# Altium footprint library Inductor_SMD.PcbLib: 259 footprints (part 5 of 17)
Each footprint in its own frame and in the unit in brackets; x right, y up, seen from the top. Pads: shape width x height; smd on the part's side, far side on the other; paste and mask are expansions set on the pad; w line width, h text height; cw(c..) or ccw(c..) is an arc to the next point about the centre after c.
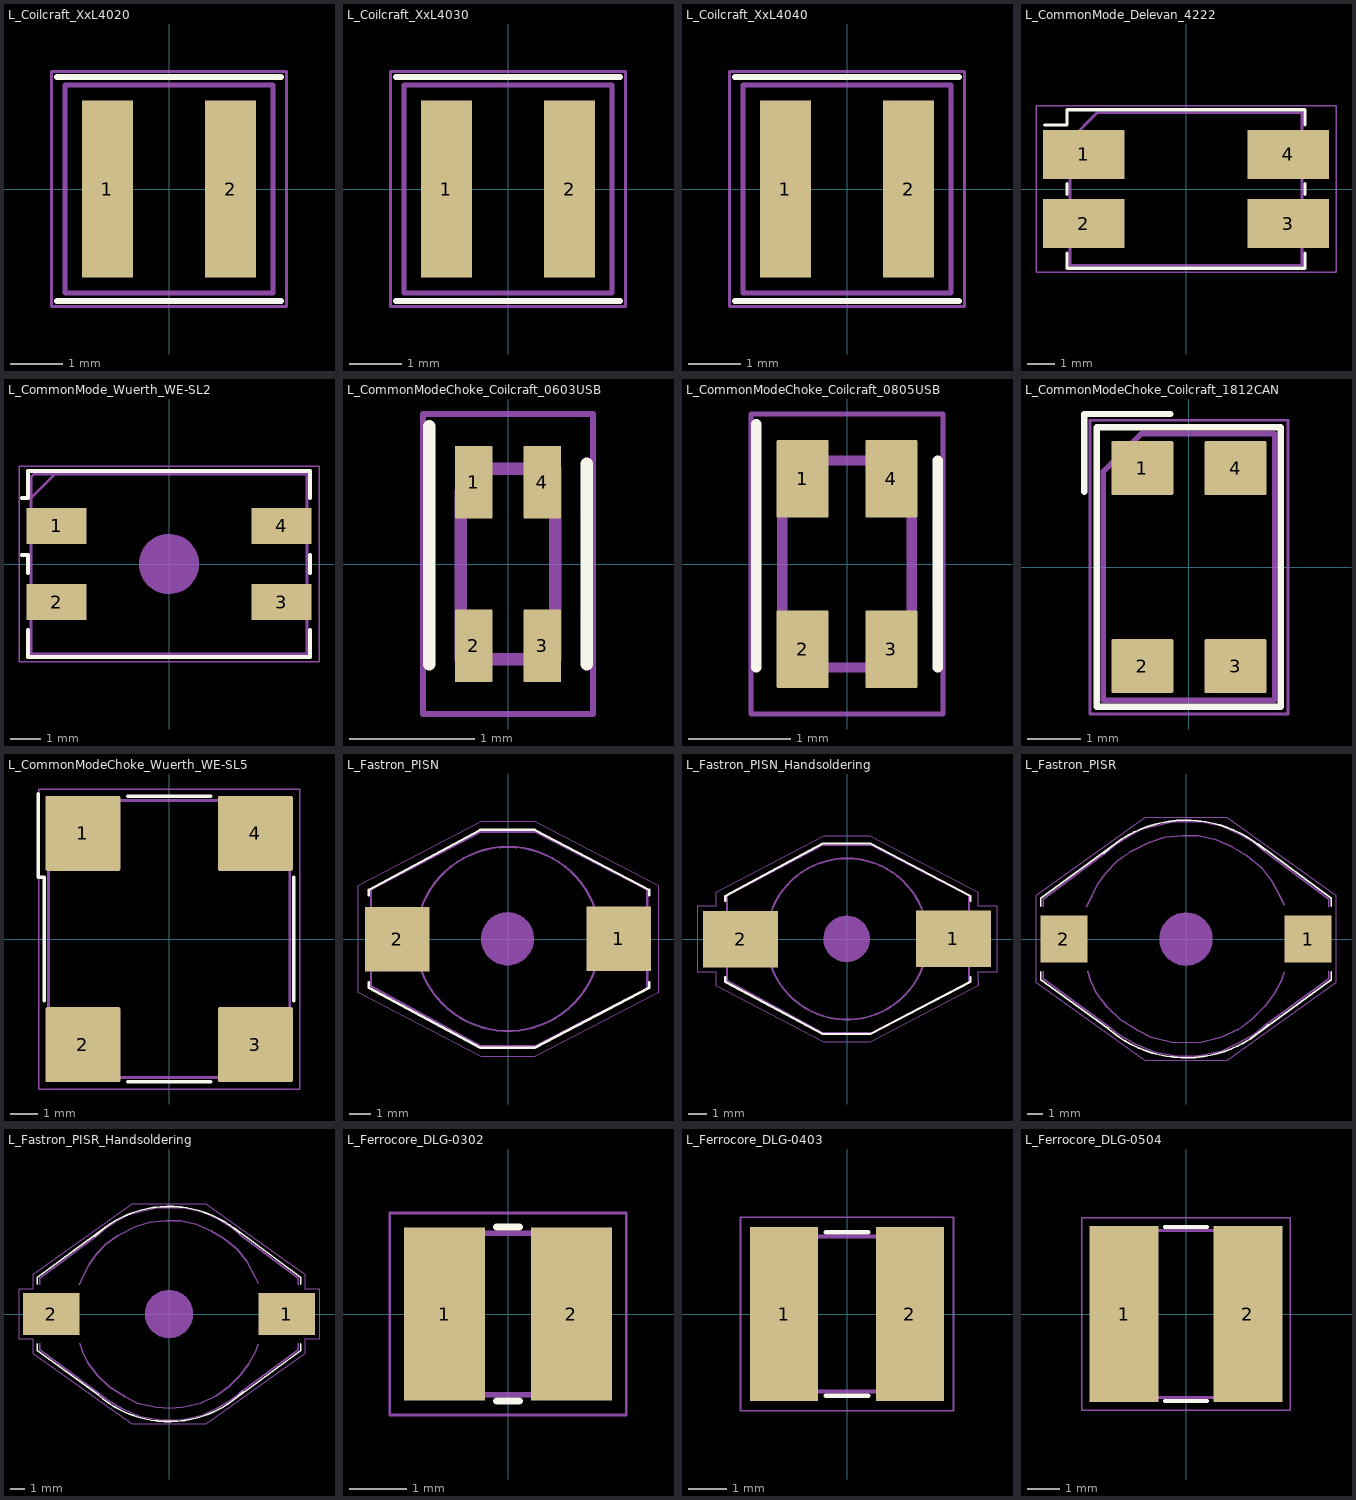
[diagram p4: the footprints below, top view; thin cyan lines are the x and y axes]

## L_Coilcraft_XxL4020 [mm]
pads (2):
  rect 0.98x3.4 smd: 1(-1.185,0) 2(1.185,0)
F.SilkS:
  lines w0.12: -2.154,-2.154 2.154,-2.154 ; -2.154,2.154 2.154,2.154
F.CrtYd:
  lines w0.05: -2.26,-2.26 -2.26,2.26 2.26,2.26 2.26,-2.26 -2.26,-2.26
F.Fab:
  lines w0.1: -2,-2 -2,2 2,2 2,-2 -2,-2
  text "'.Designator'" at -4.047,-0.84 h1

## L_Coilcraft_XxL4030 [mm]
pads (2):
  rect 0.98x3.4 smd: 1(-1.185,0) 2(1.185,0)
F.SilkS:
  lines w0.12: -2.154,-2.154 2.154,-2.154 ; -2.154,2.154 2.154,2.154
F.CrtYd:
  lines w0.05: -2.26,-2.26 -2.26,2.26 2.26,2.26 2.26,-2.26 -2.26,-2.26
F.Fab:
  lines w0.1: -2,-2 2,-2 2,2 -2,2 -2,-2
  text "'.Designator'" at -4.047,-0.84 h1

## L_Coilcraft_XxL4040 [mm]
pads (2):
  rect 0.98x3.4 smd: 1(-1.185,0) 2(1.185,0)
F.SilkS:
  lines w0.12: -2.154,-2.154 2.154,-2.154 ; -2.154,2.154 2.154,2.154
F.CrtYd:
  lines w0.05: -2.26,-2.26 -2.26,2.26 2.26,2.26 2.26,-2.26 -2.26,-2.26
F.Fab:
  lines w0.1: -2,-2 2,-2 2,2 -2,2 -2,-2
  text "'.Designator'" at -4.047,-0.84 h1

## L_CommonMode_Delevan_4222 [mm]
pads (4):
  rect 3x1.8 smd: 1(-3.75,1.27) 2(-3.75,-1.27) 3(3.75,-1.27) 4(3.75,1.27)
F.SilkS:
  lines w0.12: -5.19,2.35 -4.365,2.35 -4.365,2.91 4.365,2.91 4.365,2.35 ; -4.365,-2.35 -4.365,-2.91 4.365,-2.91 4.365,-2.35 ; -4.365,-0.19 -4.365,0.19 ; 4.365,-0.19 4.365,0.19
F.CrtYd:
  lines w0.05: -5.5,-3.05 -5.5,3.05 5.5,3.05 5.5,-3.05 -5.5,-3.05
F.Fab:
  lines w0.1: -4.255,-2.8 4.255,-2.8 4.255,2.8 -3.255,2.8 -4.255,1.8 -4.255,-2.8
  text "'.Designator'" at -4.047,-0.84 h1

## L_CommonMode_Wuerth_WE-SL2 [mm]
pads (4):
  rect 2x1.2 smd: 1(-3.75,1.27) 2(-3.75,-1.27) 3(3.75,-1.27) 4(3.75,1.27)
F.SilkS:
  lines w0.12: -4.9,0.3 -4.7,0.3 -4.7,-0.3 ; -4.8,2.2 -4.9,2.2 -4.7,2.2 -4.7,3.1 4.7,3.1 4.7,2.2 ; -4.7,-2.2 -4.7,-3.1 4.7,-3.1 4.7,-2.2 ; 4.7,-0.3 4.7,0.3
F.CrtYd:
  lines w0.05: -5,-3.25 -5,3.25 5,3.25 5,-3.25 -5,-3.25
F.Fab:
  lines w0.1: -4.6,2.2 -3.8,3 ; -4.6,-3 4.6,-3 4.6,3 -3.6,3 -4.5,3 -4.6,2.9 -4.6,2 -4.6,-3
  text "'.Designator'" at -4.067,-0.84 h1
F.Adhes:
  circle w1: c0,0 r0.5

## L_CommonModeChoke_Coilcraft_0603USB [mm]
pads (4):
  rrect5% 0.3x0.58 smd: 1(-0.275,0.655) 2(-0.275,-0.655) 3(0.275,-0.655) 4(0.275,0.655)
F.SilkS:
  lines w0.1: -0.63,-0.8 -0.63,1.1 ; 0.63,-0.8 0.63,0.8
F.CrtYd:
  lines w0.05: -0.68,-1.2 0.68,-1.2 0.68,1.2 -0.68,1.2 -0.68,-1.2
F.Fab:
  lines w0.1: -0.38,-0.76 0.38,-0.76 0.38,0.76 -0.2,0.76 -0.38,0.58 -0.38,-0.76
  text "'.Designator'" at 0.42,-2.023 h0.5

## L_CommonModeChoke_Coilcraft_0805USB [mm]
pads (4):
  rrect5% 0.51x0.76 smd: 1(-0.435,0.835) 2(-0.435,-0.835) 3(0.435,-0.835) 4(0.435,0.835)
F.SilkS:
  lines w0.1: -0.89,-1.015 -0.89,1.37 ; 0.89,-1.015 0.89,1.015
F.CrtYd:
  lines w0.05: -0.94,-1.47 -0.94,1.47 0.94,1.47 0.94,-1.47 -0.94,-1.47
F.Fab:
  lines w0.1: -0.635,-1.015 0.635,-1.015 0.635,1.015 -0.205,1.015 -0.635,0.58 -0.635,-1.015
  text "'.Designator'" at 0.42,-2.023 h0.5

## L_CommonModeChoke_Coilcraft_1812CAN [mm]
pads (4):
  rrect5% 1.15x1 smd: 1(-0.865,1.84) 2(-0.865,-1.84) 3(0.865,-1.84) 4(0.865,1.84)
F.SilkS:
  lines w0.12: -1.95,1.4 -1.95,2.845 -0.35,2.845 ; -1.71,-2.595 1.71,-2.595 1.71,2.595 -1.71,2.595 -1.71,-2.595
F.CrtYd:
  lines w0.05: -1.84,-2.73 1.84,-2.73 1.84,2.73 -1.84,2.73 -1.84,-2.73
F.Fab:
  lines w0.1: -1.59,-2.475 -1.59,1.78 -0.89,2.475 1.59,2.475 1.59,-2.475 -1.59,-2.475
  text "'.Designator'" at 0.84,-4.047 h1

## L_CommonModeChoke_Wuerth_WE-SL5 [mm]
pads (4):
  rrect4% 2.7x2.7 smd: 1(-3.11,3.81) 2(-3.11,-3.81) 3(3.11,-3.81) 4(3.11,3.81)
F.SilkS:
  lines w0.12: -4.72,5.25 -4.72,2.23 -4.5,2.23 -4.5,-2.23 ; -1.5,-5.15 1.5,-5.15 ; -1.5,5.15 1.5,5.15 ; 4.5,-2.23 4.5,2.23
F.CrtYd:
  lines w0.05: -4.71,-5.41 4.71,-5.41 4.71,5.41 -4.71,5.41 -4.71,-5.41
F.Fab:
  lines w0.1: -4.35,-5 -4.35,3 -2.35,5 4.35,5 4.35,-5 -4.35,-5
  text "'.Designator'" at -4.047,-0.84 h1

## L_Fastron_PISN [mm]
pads (2):
  rect 3x3 smd: 1(5.17,0.01) 2(-5.17,-0.01)
F.SilkS:
  lines w0.12: -6.49,-2.03 -6.49,-2.28 -1.29,-5.07 1.25,-5.07 6.59,-2.28 6.59,-2.03 ; -6.49,2.04 -6.49,2.29 -1.29,5.09 1.25,5.09 6.59,2.29 6.59,2.04
F.CrtYd:
  lines w0.05: -7,-2.5 -1.25,-5.5 1.25,-5.5 7,-2.5 7,-2.25 7,2.5 1.25,5.5 -1.25,5.5 -7,2.5 -7,-2.5
F.Fab:
  circle w0.1: c0,0 r4.3
  lines w0.1: 6.5,2 6.5,2.3 1.3,5 -1.3,5 -6.4,2.3 -6.4,2 -6.4,-2.2 -1.3,-5 1.3,-5 6.5,-2.3 6.5,2.2
  text "'.Designator'" at -3.997,-0.84 h1
F.Adhes:
  circle w0.38: c-0.02,0.01 r0.26
  circle w0.38: c-0.02,0.01 r0.51
  circle w0.38: c-0.02,0.01 r0.813
  circle w0.38: c-0.02,0.01 r1.053
  lines w0.38: -0.02,-0.25 -0.02,0.26

## L_Fastron_PISN_Handsoldering [mm]
pads (2):
  rect 4x3 smd: 1(5.67,0.01) 2(-5.67,-0.01)
F.SilkS:
  lines w0.12: -6.49,-2.03 -6.49,-2.28 -1.29,-5.07 1.25,-5.07 6.59,-2.28 6.59,-2.03 ; -6.49,2.04 -6.49,2.29 -1.29,5.09 1.25,5.09 6.59,2.29 6.59,2.04
F.CrtYd:
  lines w0.05: -8,-1.75 -8,1.75 -7,1.75 -7,2.5 -1.25,5.5 1.25,5.5 7,2.5 7,1.75 8,1.75 8,-1.75 7,-1.75 7,-2.25 7,-2.5 1.25,-5.5 -1.25,-5.5 -7,-2.5 -7,-1.75 -8,-1.75
F.Fab:
  circle w0.1: c0,0 r4.3
  lines w0.1: 6.5,2 6.5,2.3 1.3,5 -1.3,5 -6.4,2.3 -6.4,2 -6.4,-2.2 -1.3,-5 1.3,-5 6.5,-2.3 6.5,2.2
  text "'.Designator'" at -3.997,-0.84 h1
F.Adhes:
  circle w0.38: c-0.02,0.01 r0.813
  circle w0.38: c-0.02,0.01 r0.26
  circle w0.38: c-0.02,0.01 r0.51
  circle w0.38: c-0.02,0.01 r1.053
  lines w0.38: -0.02,-0.25 -0.02,0.26

## L_Fastron_PISR [mm]
pads (2):
  rect 3x3 smd: 1(7.82,0) 2(-7.82,0)
F.SilkS:
  lines w0.12: -9.3,-2.1 -9.3,-2.6 -5,-5.7 ; -9.3,2.1 -9.3,2.6 -4.4,6.2 ; -5.25,5.5 cw(c0,0) 5.022,5.709 ; -5.022,-5.709 ccw(c0,0) 5.25,-5.5 ; 4.1,-6.4 9.3,-2.6 9.3,-2.1 ; 4.6,6.1 9.3,2.6 9.3,2.1
F.CrtYd:
  lines w0.05: -9.6,-2.8 -2.6,-7.8 2.6,-7.8 9.6,-2.8 9.6,2.8 2.6,7.8 -2.6,7.8 -9.6,2.8 -9.6,-2.8
F.Fab:
  lines w0.1: -9.14,-2.08 -9.14,-2.54 -4.98,-5.59 -4.32,-6.1 -3.3,-6.71 -1.98,-7.26 -0.56,-7.52 0.51,-7.52 1.17,-7.42 2.34,-7.16 3.4,-6.65 4.37,-6.1 5.13,-5.49 ; -9.14,2.08 -9.14,2.54 -4.98,5.64 -4.57,5.99 -3.71,6.55 -2.84,7.01 -1.88,7.26 -0.81,7.52 0,7.52 1.12,7.47 2.34,7.21 3.56,6.65 4.37,6.15 4.93,5.69 ; -6.35,2.08 -6.05,2.69 -5.64,3.51 -5.13,4.22 -4.42,4.98 -3.61,5.54 -2.39,6.15 -1.37,6.5 -0.2,6.6 0.81,6.6 1.93,6.35 2.95,5.89 3.91,5.33 4.83,4.57 5.49,3.71 6.1,2.59 6.3,2.18 ; -6.3,-2.08 -6.1,-2.69 -5.74,-3.45 -5.03,-4.37 -4.22,-5.13 -3.1,-5.84 -2.24,-6.3 -0.91,-6.6 0.05,-6.65 0.97,-6.6 2.24,-6.3 3.35,-5.79 4.22,-5.13 5.03,-4.32 5.64,-3.51 6.1,-2.69 6.3,-2.13 ; 4.98,-5.59 9.14,-2.54 9.14,-2.08 ; 4.98,5.64 9.14,2.54 9.14,2.08
  text "'.Designator'" at -4.047,-0.84 h1
F.Adhes:
  circle w0.38: c0,0 r1.52
  circle w0.38: c0,0 r0.25
  circle w0.38: c0,0 r0.51
  circle w0.38: c0,0 r1.27
  circle w0.38: c0,0 r1.02
  circle w0.38: c0,0 r0.76
  lines w0.38: 0,-0.25 0,0.25

## L_Fastron_PISR_Handsoldering [mm]
pads (2):
  rect 4x3 smd: 1(8.33,0) 2(-8.33,0)
F.SilkS:
  lines w0.12: -9.3,-2.1 -9.3,-2.6 -5,-5.7 ; -9.3,2.1 -9.3,2.6 -4.4,6.2 ; -5.25,5.5 cw(c0,0) 5.022,5.709 ; -5.022,-5.709 ccw(c0,0) 5.25,-5.5 ; 4.1,-6.4 9.3,-2.6 9.3,-2.1 ; 4.6,6.1 9.3,2.6 9.3,2.1
F.CrtYd:
  lines w0.05: -10.6,-1.8 -10.6,1.8 -9.6,1.8 -9.6,2.8 -2.6,7.8 2.6,7.8 9.6,2.8 9.6,1.8 10.6,1.8 10.6,-1.8 9.6,-1.8 9.6,-2.8 2.6,-7.8 -2.6,-7.8 -9.6,-2.8 -9.6,-1.8 -10.6,-1.8
F.Fab:
  lines w0.1: -9.14,-2.08 -9.14,-2.54 -4.98,-5.59 -4.32,-6.1 -3.3,-6.71 -1.98,-7.26 -0.56,-7.52 0.51,-7.52 1.17,-7.42 2.34,-7.16 3.4,-6.65 4.37,-6.1 5.13,-5.49 ; -9.14,2.08 -9.14,2.54 -4.98,5.64 -4.57,5.99 -3.71,6.55 -2.84,7.01 -1.88,7.26 -0.81,7.52 0,7.52 1.12,7.47 2.34,7.21 3.56,6.65 4.37,6.15 4.93,5.69 ; -6.35,2.08 -6.05,2.69 -5.64,3.51 -5.13,4.22 -4.42,4.98 -3.61,5.54 -2.39,6.15 -1.37,6.5 -0.2,6.6 0.81,6.6 1.93,6.35 2.95,5.89 3.91,5.33 4.83,4.57 5.49,3.71 6.1,2.59 6.3,2.18 ; -6.3,-2.08 -6.1,-2.69 -5.74,-3.45 -5.03,-4.37 -4.22,-5.13 -3.1,-5.84 -2.24,-6.3 -0.91,-6.6 0.05,-6.65 0.97,-6.6 2.24,-6.3 3.35,-5.79 4.22,-5.13 5.03,-4.32 5.64,-3.51 6.1,-2.69 6.3,-2.13 ; 4.98,-5.59 9.14,-2.54 9.14,-2.08 ; 4.98,5.64 9.14,2.54 9.14,2.08
  text "'.Designator'" at -4.047,-0.84 h1
F.Adhes:
  circle w0.38: c0,0 r1.27
  circle w0.38: c0,0 r0.76
  circle w0.38: c0,0 r1.52
  circle w0.38: c0,0 r0.51
  circle w0.38: c0,0 r0.25
  circle w0.38: c0,0 r1.02
  lines w0.38: 0,-0.25 0,0.25

## L_Ferrocore_DLG-0302 [mm]
pads (2):
  rect 1.4x3 smd: 1(-1.1,0) 2(1.1,0)
F.SilkS:
  lines w0.12: -0.2,-1.51 0.2,-1.51 ; -0.2,1.51 0.2,1.51
F.CrtYd:
  lines w0.05: -2.05,-1.75 -2.05,1.75 2.05,1.75 2.05,-1.75 -2.05,-1.75
F.Fab:
  lines w0.1: -0.4,-1.4 0.4,-1.4 ccw(c0.059,0) 0.4,1.4 -0.4,1.4 ccw(c-0.059,0) -0.4,-1.4
  text "'.Designator'" at -3.647,-0.761 h0.9

## L_Ferrocore_DLG-0403 [mm]
pads (2):
  rect 1.75x4.5 smd: 1(-1.625,0) 2(1.625,0)
F.SilkS:
  lines w0.12: -0.55,-2.11 0.55,-2.11 ; -0.55,2.11 0.55,2.11
F.CrtYd:
  lines w0.05: -2.75,-2.5 2.75,-2.5 2.75,2.5 -2.75,2.5 -2.75,-2.5
F.Fab:
  lines w0.1: -0.75,-2 0.75,-2 ccw(c0.167,0) 0.75,2 -0.75,2 ccw(c-0.167,0) -0.75,-2
  text "'.Designator'" at -4.047,-0.84 h1

## L_Ferrocore_DLG-0504 [mm]
pads (2):
  rect 2.15x5.5 smd: 1(-1.925,0) 2(1.925,0)
F.SilkS:
  lines w0.12: -0.65,-2.71 0.65,-2.71 ; -0.65,2.71 0.65,2.71
F.CrtYd:
  lines w0.05: -3.25,-3 3.25,-3 3.25,3 -3.25,3 -3.25,-3
F.Fab:
  lines w0.1: -0.85,-2.6 0.85,-2.6 ccw(c0.226,0) 0.85,2.6 -0.85,2.6 ccw(c-0.226,0) -0.85,-2.6
  text "'.Designator'" at -4.047,-0.84 h1